# Altium integrated library NSC Power Mgt Switching Regulator.IntLib: 201 symbols (part 4 of 4)
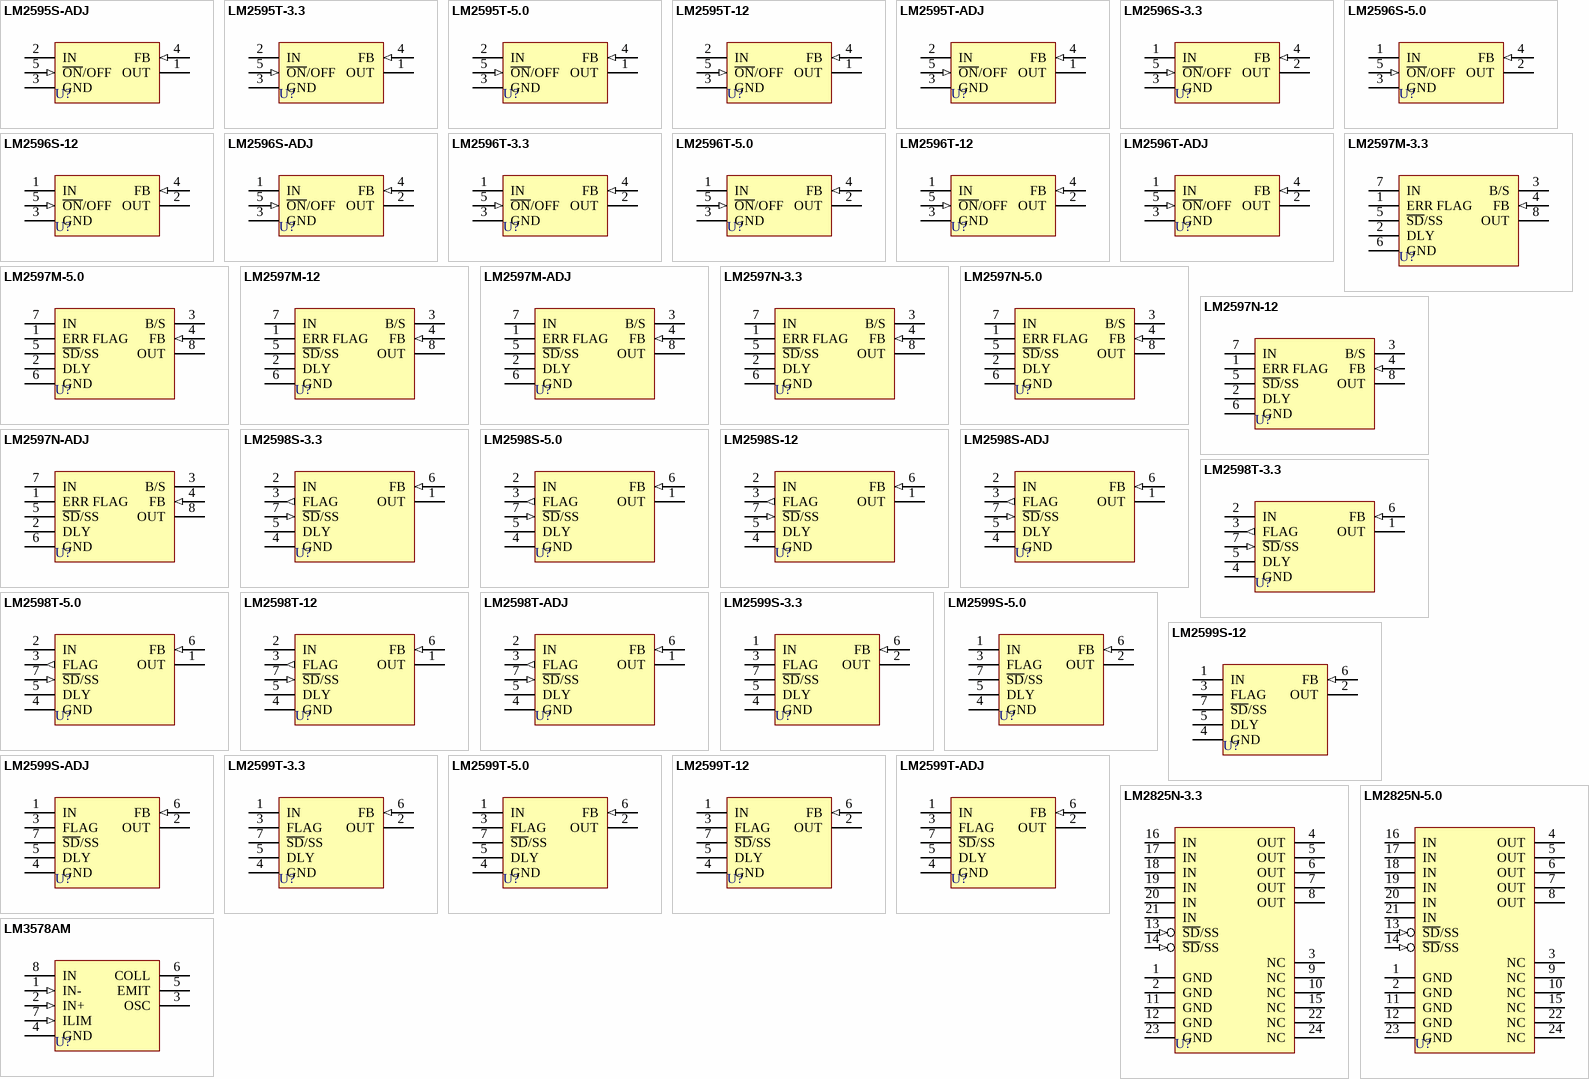
[diagram p8: symbols LM2595S-ADJ to LM3578AM]

## LM2597M-5.0
designator U?
Simple Switcher Power Converter 150 kHz 0.5A Step Down Voltage Regulator, with Features; Published: 15-Apr-2002; LatestRevisionDate: 13-Apr-2006; LatestRevisionNote: IPC-7351 Footprint Added.; DatasheetVersion: Mar-1998; PackageVersion: Sep-1997; PackageReference: M08A; Publisher: Altium Limited; PackageDescription: 8-Pin Small Outline Integrated Circuit 1.27 mm Pitch; Code_JEDEC: MS-012-AA; Code_IPC: SOIC127P600-8; ComponentLink1Description: Manufacturer Link; ComponentLink1URL: http://www.national.com/; ComponentLink2Description: Datasheet; ComponentLink2URL: http://www.national.com/ds.cgi/LM/LM2597.pdf; ComponentLink3Description: URL Link1; ComponentLink3URL: http://www.national.com/pf/LM/LM2597.html
footprint M08A_N (SOIC, 8-Leads, Body 4.9x3.9mm, Pitch 1.27mm, IPC Medium Density)
footprint M08A_L (SOIC, 8-Leads, Body 4.9x3.9mm, Pitch 1.27mm, IPC High Density)
footprint M08A_M (SOIC, 8-Leads, Body 4.9x3.9mm, Pitch 1.27mm, IPC Low Density)
3D model M08A (8-Pin Small Outline Integrated Circuit 1.27 mm Pitch)
pins: 1 ERR FLAG (oc), 2 DLY, 3 B/S, 4 FB (in), 5 ~{SD}/SS, 6 GND (power), 7 IN (power), 8 OUT (power)

## LM2597M-12
designator U?
Simple Switcher Power Converter 150 kHz 0.5A Step Down Voltage Regulator, with Features; Published: 15-Apr-2002; LatestRevisionDate: 13-Apr-2006; LatestRevisionNote: IPC-7351 Footprint Added.; DatasheetVersion: Mar-1998; PackageVersion: Sep-1997; PackageReference: M08A; Publisher: Altium Limited; PackageDescription: 8-Pin Small Outline Integrated Circuit 1.27 mm Pitch; Code_JEDEC: MS-012-AA; Code_IPC: SOIC127P600-8; ComponentLink1Description: Manufacturer Link; ComponentLink1URL: http://www.national.com/; ComponentLink2Description: Datasheet; ComponentLink2URL: http://www.national.com/ds.cgi/LM/LM2597.pdf; ComponentLink3Description: URL Link1; ComponentLink3URL: http://www.national.com/pf/LM/LM2597.html
footprint M08A_N (SOIC, 8-Leads, Body 4.9x3.9mm, Pitch 1.27mm, IPC Medium Density)
footprint M08A_L (SOIC, 8-Leads, Body 4.9x3.9mm, Pitch 1.27mm, IPC High Density)
footprint M08A_M (SOIC, 8-Leads, Body 4.9x3.9mm, Pitch 1.27mm, IPC Low Density)
3D model M08A (8-Pin Small Outline Integrated Circuit 1.27 mm Pitch)
pins: 1 ERR FLAG (oc), 2 DLY, 3 B/S, 4 FB (in), 5 ~{SD}/SS, 6 GND (power), 7 IN (power), 8 OUT (power)

## LM2597M-ADJ
designator U?
Simple Switcher Power Converter 150 kHz 0.5A Step Down Voltage Regulator, with Features; Published: 15-Apr-2002; LatestRevisionDate: 13-Apr-2006; LatestRevisionNote: IPC-7351 Footprint Added.; DatasheetVersion: Mar-1998; PackageVersion: Sep-1997; PackageReference: M08A; Publisher: Altium Limited; PackageDescription: 8-Pin Small Outline Integrated Circuit 1.27 mm Pitch; Code_JEDEC: MS-012-AA; Code_IPC: SOIC127P600-8; ComponentLink1Description: Manufacturer Link; ComponentLink1URL: http://www.national.com/; ComponentLink2Description: Datasheet; ComponentLink2URL: http://www.national.com/ds.cgi/LM/LM2597.pdf; ComponentLink3Description: URL Link1; ComponentLink3URL: http://www.national.com/pf/LM/LM2597.html
footprint M08A_N (SOIC, 8-Leads, Body 4.9x3.9mm, Pitch 1.27mm, IPC Medium Density)
footprint M08A_L (SOIC, 8-Leads, Body 4.9x3.9mm, Pitch 1.27mm, IPC High Density)
footprint M08A_M (SOIC, 8-Leads, Body 4.9x3.9mm, Pitch 1.27mm, IPC Low Density)
3D model M08A (8-Pin Small Outline Integrated Circuit 1.27 mm Pitch)
pins: 1 ERR FLAG (oc), 2 DLY, 3 B/S, 4 FB (in), 5 ~{SD}/SS, 6 GND (power), 7 IN (power), 8 OUT (power)

## LM2597N-3.3
designator U?
Simple Switcher Power Converter 150 kHz 0.5A Step Down Voltage Regulator, with Features; Published: 15-Apr-2002; LatestRevisionDate: 06-Jun-2005; LatestRevisionNote: Stylized 3D Model Added.; DatasheetVersion: Mar-1998; PackageVersion: Sep-1997; PackageReference: N08E; Publisher: Altium Limited; PackageDescription: DIP; 8 Leads; Row Spacing 7.62 mm; Pitch 2.54 mm; ComponentLink1Description: Manufacturer Link; ComponentLink1URL: http://www.national.com/; ComponentLink2Description: Datasheet; ComponentLink2URL: http://www.national.com/ds.cgi/LM/LM2597.pdf; ComponentLink3Description: URL Link1; ComponentLink3URL: http://www.national.com/pf/LM/LM2597.html
footprint N08E (DIP; 8 Leads; Row Spacing 7.62 mm; Pitch 2.54 mm)
3D model N08E (DIP; 8 Leads; Row Spacing 7.62 mm; Pitch 2.54 mm)
pins: 1 ERR FLAG (oc), 2 DLY, 3 B/S, 4 FB (in), 5 ~{SD}/SS, 6 GND (power), 7 IN (power), 8 OUT (power)

## LM2597N-5.0
designator U?
Simple Switcher Power Converter 150 kHz 0.5A Step Down Voltage Regulator, with Features; Published: 15-Apr-2002; LatestRevisionDate: 06-Jun-2005; LatestRevisionNote: Stylized 3D Model Added.; DatasheetVersion: Mar-1998; PackageVersion: Sep-1997; PackageReference: N08E; Publisher: Altium Limited; PackageDescription: DIP; 8 Leads; Row Spacing 7.62 mm; Pitch 2.54 mm; ComponentLink1Description: Manufacturer Link; ComponentLink1URL: http://www.national.com/; ComponentLink2Description: Datasheet; ComponentLink2URL: http://www.national.com/ds.cgi/LM/LM2597.pdf; ComponentLink3Description: URL Link1; ComponentLink3URL: http://www.national.com/pf/LM/LM2597.html
footprint N08E (DIP; 8 Leads; Row Spacing 7.62 mm; Pitch 2.54 mm)
3D model N08E (DIP; 8 Leads; Row Spacing 7.62 mm; Pitch 2.54 mm)
pins: 1 ERR FLAG (oc), 2 DLY, 3 B/S, 4 FB (in), 5 ~{SD}/SS, 6 GND (power), 7 IN (power), 8 OUT (power)

## LM2597N-12
designator U?
Simple Switcher Power Converter 150 kHz 0.5A Step Down Voltage Regulator, with Features; Published: 15-Apr-2002; LatestRevisionDate: 06-Jun-2005; LatestRevisionNote: Stylized 3D Model Added.; DatasheetVersion: Mar-1998; PackageVersion: Sep-1997; PackageReference: N08E; Publisher: Altium Limited; PackageDescription: DIP; 8 Leads; Row Spacing 7.62 mm; Pitch 2.54 mm; ComponentLink1Description: Manufacturer Link; ComponentLink1URL: http://www.national.com/; ComponentLink2Description: Datasheet; ComponentLink2URL: http://www.national.com/ds.cgi/LM/LM2597.pdf; ComponentLink3Description: URL Link1; ComponentLink3URL: http://www.national.com/pf/LM/LM2597.html
footprint N08E (DIP; 8 Leads; Row Spacing 7.62 mm; Pitch 2.54 mm)
3D model N08E (DIP; 8 Leads; Row Spacing 7.62 mm; Pitch 2.54 mm)
pins: 1 ERR FLAG (oc), 2 DLY, 3 B/S, 4 FB (in), 5 ~{SD}/SS, 6 GND (power), 7 IN (power), 8 OUT (power)

## LM2597N-ADJ
designator U?
Simple Switcher Power Converter 150 kHz 0.5A Step Down Voltage Regulator, with Features; Published: 15-Apr-2002; LatestRevisionDate: 06-Jun-2005; LatestRevisionNote: Stylized 3D Model Added.; DatasheetVersion: Mar-1998; PackageVersion: Sep-1997; PackageReference: N08E; Publisher: Altium Limited; PackageDescription: DIP; 8 Leads; Row Spacing 7.62 mm; Pitch 2.54 mm; ComponentLink1Description: Manufacturer Link; ComponentLink1URL: http://www.national.com/; ComponentLink2Description: Datasheet; ComponentLink2URL: http://www.national.com/ds.cgi/LM/LM2597.pdf; ComponentLink3Description: URL Link1; ComponentLink3URL: http://www.national.com/pf/LM/LM2597.html
footprint N08E (DIP; 8 Leads; Row Spacing 7.62 mm; Pitch 2.54 mm)
3D model N08E (DIP; 8 Leads; Row Spacing 7.62 mm; Pitch 2.54 mm)
pins: 1 ERR FLAG (oc), 2 DLY, 3 B/S, 4 FB (in), 5 ~{SD}/SS, 6 GND (power), 7 IN (power), 8 OUT (power)

## LM2598S-3.3
designator U?
Simple Switcher Power Converter 150 kHz 1A Step Down Voltage Regulator with Feature; Note: Tab is connected to GND; Published: 15-Apr-2002; DatasheetVersion: Mar-1998; PackageReference: TS7B; Publisher: Altium Limited; PackageDescription: D2-PAK; 7 Leads; Body 14.4 (inc. leads) x 10.4 mm (LxW max); ComponentLink1Description: Manufacturer Link; ComponentLink1URL: http://www.national.com/; ComponentLink2Description: Datasheet; ComponentLink2URL: http://www.national.com/ds.cgi/LM/LM2598.pdf; ComponentLink3Description: URL Link1; ComponentLink3URL: http://www.national.com/pf/LM/LM2598.html
footprint TS7B (D2-PAK; 7 Leads; Body 14.4 (inc. leads) x 10.4 mm (LxW max))
pins: 1 OUT (power), 2 IN (power), 3 FLAG (out), 4 GND (power), 5 DLY, 6 FB (in), 7 ~{SD}/SS (in)

## LM2598S-5.0
designator U?
Simple Switcher Power Converter 150 kHz 1A Step Down Voltage Regulator with Feature; Note: Tab is connected to GND; Published: 15-Apr-2002; DatasheetVersion: Mar-1998; PackageReference: TS7B; Publisher: Altium Limited; PackageDescription: D2-PAK; 7 Leads; Body 14.4 (inc. leads) x 10.4 mm (LxW max); ComponentLink1Description: Manufacturer Link; ComponentLink1URL: http://www.national.com/; ComponentLink2Description: Datasheet; ComponentLink2URL: http://www.national.com/ds.cgi/LM/LM2598.pdf; ComponentLink3Description: URL Link1; ComponentLink3URL: http://www.national.com/pf/LM/LM2598.html
footprint TS7B (D2-PAK; 7 Leads; Body 14.4 (inc. leads) x 10.4 mm (LxW max))
pins: 1 OUT (power), 2 IN (power), 3 FLAG (out), 4 GND (power), 5 DLY, 6 FB (in), 7 ~{SD}/SS (in)

## LM2598S-12
designator U?
Simple Switcher Power Converter 150 kHz 1A Step Down Voltage Regulator with Feature; Note: Tab is connected to GND; Published: 15-Apr-2002; DatasheetVersion: Mar-1998; PackageReference: TS7B; Publisher: Altium Limited; PackageDescription: D2-PAK; 7 Leads; Body 14.4 (inc. leads) x 10.4 mm (LxW max); ComponentLink1Description: Manufacturer Link; ComponentLink1URL: http://www.national.com/; ComponentLink2Description: Datasheet; ComponentLink2URL: http://www.national.com/ds.cgi/LM/LM2598.pdf; ComponentLink3Description: URL Link1; ComponentLink3URL: http://www.national.com/pf/LM/LM2598.html
footprint TS7B (D2-PAK; 7 Leads; Body 14.4 (inc. leads) x 10.4 mm (LxW max))
pins: 1 OUT (power), 2 IN (power), 3 FLAG (out), 4 GND (power), 5 DLY, 6 FB (in), 7 ~{SD}/SS (in)

## LM2598S-ADJ
designator U?
Simple Switcher Power Converter 150 kHz 1A Step Down Voltage Regulator with Feature; Note: Tab is connected to GND; Published: 15-Apr-2002; DatasheetVersion: Mar-1998; PackageReference: TS7B; Publisher: Altium Limited; PackageDescription: D2-PAK; 7 Leads; Body 14.4 (inc. leads) x 10.4 mm (LxW max); ComponentLink1Description: Manufacturer Link; ComponentLink1URL: http://www.national.com/; ComponentLink2Description: Datasheet; ComponentLink2URL: http://www.national.com/ds.cgi/LM/LM2598.pdf; ComponentLink3Description: URL Link1; ComponentLink3URL: http://www.national.com/pf/LM/LM2598.html
footprint TS7B (D2-PAK; 7 Leads; Body 14.4 (inc. leads) x 10.4 mm (LxW max))
pins: 1 OUT (power), 2 IN (power), 3 FLAG (out), 4 GND (power), 5 DLY, 6 FB (in), 7 ~{SD}/SS (in)

## LM2598T-3.3
designator U?
Simple Switcher Power Converter 150 kHz 1A Step Down Voltage Regulator with Feature; Note: Tab is connected to GND; Published: 15-Apr-2002; DatasheetVersion: Mar-1998; PackageVersion: 1996; PackageReference: TA07B; Publisher: Altium Limited; PackageDescription: TO, Thru-Hole, Vertical, Heatsink Mounted; 7 Bent Staggered Leads; Pitch 1.27 mm; ComponentLink1Description: Manufacturer Link; ComponentLink1URL: http://www.national.com/; ComponentLink2Description: Datasheet; ComponentLink2URL: http://www.national.com/ds.cgi/LM/LM2598.pdf; ComponentLink3Description: URL Link1; ComponentLink3URL: http://www.national.com/pf/LM/LM2598.html
footprint TA07B (TO, Thru-Hole, Vertical, Heatsink Mounted; 7 Bent Staggered Leads; Pitch 1.27 mm)
pins: 1 OUT (power), 2 IN (power), 3 FLAG (out), 4 GND (power), 5 DLY, 6 FB (in), 7 ~{SD}/SS (in)

## LM2598T-5.0
designator U?
Simple Switcher Power Converter 150 kHz 1A Step Down Voltage Regulator with Feature; Note: Tab is connected to GND; Published: 15-Apr-2002; DatasheetVersion: Mar-1998; PackageVersion: 1996; PackageReference: TA07B; Publisher: Altium Limited; PackageDescription: TO, Thru-Hole, Vertical, Heatsink Mounted; 7 Bent Staggered Leads; Pitch 1.27 mm; ComponentLink1Description: Manufacturer Link; ComponentLink1URL: http://www.national.com/; ComponentLink2Description: Datasheet; ComponentLink2URL: http://www.national.com/ds.cgi/LM/LM2598.pdf; ComponentLink3Description: URL Link1; ComponentLink3URL: http://www.national.com/pf/LM/LM2598.html
footprint TA07B (TO, Thru-Hole, Vertical, Heatsink Mounted; 7 Bent Staggered Leads; Pitch 1.27 mm)
pins: 1 OUT (power), 2 IN (power), 3 FLAG (out), 4 GND (power), 5 DLY, 6 FB (in), 7 ~{SD}/SS (in)

## LM2598T-12
designator U?
Simple Switcher Power Converter 150 kHz 1A Step Down Voltage Regulator with Feature; Note: Tab is connected to GND; Published: 15-Apr-2002; DatasheetVersion: Mar-1998; PackageVersion: 1996; PackageReference: TA07B; Publisher: Altium Limited; PackageDescription: TO, Thru-Hole, Vertical, Heatsink Mounted; 7 Bent Staggered Leads; Pitch 1.27 mm; ComponentLink1Description: Manufacturer Link; ComponentLink1URL: http://www.national.com/; ComponentLink2Description: Datasheet; ComponentLink2URL: http://www.national.com/ds.cgi/LM/LM2598.pdf; ComponentLink3Description: URL Link1; ComponentLink3URL: http://www.national.com/pf/LM/LM2598.html
footprint TA07B (TO, Thru-Hole, Vertical, Heatsink Mounted; 7 Bent Staggered Leads; Pitch 1.27 mm)
pins: 1 OUT (power), 2 IN (power), 3 FLAG (out), 4 GND (power), 5 DLY, 6 FB (in), 7 ~{SD}/SS (in)

## LM2598T-ADJ
designator U?
Simple Switcher Power Converter 150 kHz 1A Step Down Voltage Regulator with Feature; Note: Tab is connected to GND; Published: 15-Apr-2002; DatasheetVersion: Mar-1998; PackageVersion: 1996; PackageReference: TA07B; Publisher: Altium Limited; PackageDescription: TO, Thru-Hole, Vertical, Heatsink Mounted; 7 Bent Staggered Leads; Pitch 1.27 mm; ComponentLink1Description: Manufacturer Link; ComponentLink1URL: http://www.national.com/; ComponentLink2Description: Datasheet; ComponentLink2URL: http://www.national.com/ds.cgi/LM/LM2598.pdf; ComponentLink3Description: URL Link1; ComponentLink3URL: http://www.national.com/pf/LM/LM2598.html
footprint TA07B (TO, Thru-Hole, Vertical, Heatsink Mounted; 7 Bent Staggered Leads; Pitch 1.27 mm)
pins: 1 OUT (power), 2 IN (power), 3 FLAG (out), 4 GND (power), 5 DLY, 6 FB (in), 7 ~{SD}/SS (in)

## LM2599S-3.3
designator U?
Simple Switcher Power Converter 150 kHz 3A Step Down Voltage Regulator with Feature; Note: Tab is connected to GND; Published: 15-Apr-2002; DatasheetVersion: Apr-1998; PackageReference: TS7B; Publisher: Altium Limited; PackageDescription: D2-PAK; 7 Leads; Body 14.4 (inc. leads) x 10.4 mm (LxW max); ComponentLink1Description: Manufacturer Link; ComponentLink1URL: http://www.national.com/; ComponentLink2Description: Datasheet; ComponentLink2URL: http://www.national.com/ds.cgi/LM/LM2599.pdf; ComponentLink3Description: URL Link1; ComponentLink3URL: http://www.national.com/pf/LM/LM2599.html
footprint TS7B (D2-PAK; 7 Leads; Body 14.4 (inc. leads) x 10.4 mm (LxW max))
pins: 1 IN (power), 2 OUT (power), 3 FLAG (oc), 4 GND (power), 5 DLY, 6 FB (in), 7 ~{SD}/SS

## LM2599S-5.0
designator U?
Simple Switcher Power Converter 150 kHz 3A Step Down Voltage Regulator with Feature; Note: Tab is connected to GND; Published: 15-Apr-2002; DatasheetVersion: Apr-1998; PackageReference: TS7B; Publisher: Altium Limited; PackageDescription: D2-PAK; 7 Leads; Body 14.4 (inc. leads) x 10.4 mm (LxW max); ComponentLink1Description: Manufacturer Link; ComponentLink1URL: http://www.national.com/; ComponentLink2Description: Datasheet; ComponentLink2URL: http://www.national.com/ds.cgi/LM/LM2599.pdf; ComponentLink3Description: URL Link1; ComponentLink3URL: http://www.national.com/pf/LM/LM2599.html
footprint TS7B (D2-PAK; 7 Leads; Body 14.4 (inc. leads) x 10.4 mm (LxW max))
pins: 1 IN (power), 2 OUT (power), 3 FLAG (oc), 4 GND (power), 5 DLY, 6 FB (in), 7 ~{SD}/SS

## LM2599S-12
designator U?
Simple Switcher Power Converter 150 kHz 3A Step Down Voltage Regulator with Feature; Note: Tab is connected to GND; Published: 15-Apr-2002; DatasheetVersion: Apr-1998; PackageReference: TS7B; Publisher: Altium Limited; PackageDescription: D2-PAK; 7 Leads; Body 14.4 (inc. leads) x 10.4 mm (LxW max); ComponentLink1Description: Manufacturer Link; ComponentLink1URL: http://www.national.com/; ComponentLink2Description: Datasheet; ComponentLink2URL: http://www.national.com/ds.cgi/LM/LM2599.pdf; ComponentLink3Description: URL Link1; ComponentLink3URL: http://www.national.com/pf/LM/LM2599.html
footprint TS7B (D2-PAK; 7 Leads; Body 14.4 (inc. leads) x 10.4 mm (LxW max))
pins: 1 IN (power), 2 OUT (power), 3 FLAG (oc), 4 GND (power), 5 DLY, 6 FB (in), 7 ~{SD}/SS

## LM2599S-ADJ
designator U?
Simple Switcher Power Converter 150 kHz 3A Step Down Voltage Regulator with Feature; Note: Tab is connected to GND; Published: 15-Apr-2002; DatasheetVersion: Apr-1998; PackageReference: TS7B; Publisher: Altium Limited; PackageDescription: D2-PAK; 7 Leads; Body 14.4 (inc. leads) x 10.4 mm (LxW max); ComponentLink1Description: Manufacturer Link; ComponentLink1URL: http://www.national.com/; ComponentLink2Description: Datasheet; ComponentLink2URL: http://www.national.com/ds.cgi/LM/LM2599.pdf; ComponentLink3Description: URL Link1; ComponentLink3URL: http://www.national.com/pf/LM/LM2599.html
footprint TS7B (D2-PAK; 7 Leads; Body 14.4 (inc. leads) x 10.4 mm (LxW max))
pins: 1 IN (power), 2 OUT (power), 3 FLAG (oc), 4 GND (power), 5 DLY, 6 FB (in), 7 ~{SD}/SS

## LM2599T-3.3
designator U?
Simple Switcher Power Converter 150 kHz 3A Step Down Voltage Regulator with Feature; Note: Tab is connected to GND; Published: 15-Apr-2002; DatasheetVersion: Apr-1998; PackageVersion: 1996; PackageReference: TA07B; Publisher: Altium Limited; PackageDescription: TO, Thru-Hole, Vertical, Heatsink Mounted; 7 Bent Staggered Leads; Pitch 1.27 mm; ComponentLink1Description: Manufacturer Link; ComponentLink1URL: http://www.national.com/; ComponentLink2Description: Datasheet; ComponentLink2URL: http://www.national.com/ds.cgi/LM/LM2599.pdf; ComponentLink3Description: URL Link1; ComponentLink3URL: http://www.national.com/pf/LM/LM2599.html
footprint TA07B (TO, Thru-Hole, Vertical, Heatsink Mounted; 7 Bent Staggered Leads; Pitch 1.27 mm)
pins: 1 IN (power), 2 OUT (power), 3 FLAG (oc), 4 GND (power), 5 DLY, 6 FB (in), 7 ~{SD}/SS

## LM2599T-5.0
designator U?
Simple Switcher Power Converter 150 kHz 3A Step Down Voltage Regulator with Feature; Note: Tab is connected to GND; Published: 15-Apr-2002; DatasheetVersion: Apr-1998; PackageVersion: 1996; PackageReference: TA07B; Publisher: Altium Limited; PackageDescription: TO, Thru-Hole, Vertical, Heatsink Mounted; 7 Bent Staggered Leads; Pitch 1.27 mm; ComponentLink1Description: Manufacturer Link; ComponentLink1URL: http://www.national.com/; ComponentLink2Description: Datasheet; ComponentLink2URL: http://www.national.com/ds.cgi/LM/LM2599.pdf; ComponentLink3Description: URL Link1; ComponentLink3URL: http://www.national.com/pf/LM/LM2599.html
footprint TA07B (TO, Thru-Hole, Vertical, Heatsink Mounted; 7 Bent Staggered Leads; Pitch 1.27 mm)
pins: 1 IN (power), 2 OUT (power), 3 FLAG (oc), 4 GND (power), 5 DLY, 6 FB (in), 7 ~{SD}/SS

## LM2599T-12
designator U?
Simple Switcher Power Converter 150 kHz 3A Step Down Voltage Regulator with Feature; Note: Tab is connected to GND; Published: 15-Apr-2002; DatasheetVersion: Apr-1998; PackageVersion: 1996; PackageReference: TA07B; Publisher: Altium Limited; PackageDescription: TO, Thru-Hole, Vertical, Heatsink Mounted; 7 Bent Staggered Leads; Pitch 1.27 mm; ComponentLink1Description: Manufacturer Link; ComponentLink1URL: http://www.national.com/; ComponentLink2Description: Datasheet; ComponentLink2URL: http://www.national.com/ds.cgi/LM/LM2599.pdf; ComponentLink3Description: URL Link1; ComponentLink3URL: http://www.national.com/pf/LM/LM2599.html
footprint TA07B (TO, Thru-Hole, Vertical, Heatsink Mounted; 7 Bent Staggered Leads; Pitch 1.27 mm)
pins: 1 IN (power), 2 OUT (power), 3 FLAG (oc), 4 GND (power), 5 DLY, 6 FB (in), 7 ~{SD}/SS

## LM2599T-ADJ
designator U?
Simple Switcher Power Converter 150 kHz 3A Step Down Voltage Regulator with Feature; Note: Tab is connected to GND; Published: 15-Apr-2002; DatasheetVersion: Apr-1998; PackageVersion: 1996; PackageReference: TA07B; Publisher: Altium Limited; PackageDescription: TO, Thru-Hole, Vertical, Heatsink Mounted; 7 Bent Staggered Leads; Pitch 1.27 mm; ComponentLink1Description: Manufacturer Link; ComponentLink1URL: http://www.national.com/; ComponentLink2Description: Datasheet; ComponentLink2URL: http://www.national.com/ds.cgi/LM/LM2599.pdf; ComponentLink3Description: URL Link1; ComponentLink3URL: http://www.national.com/pf/LM/LM2599.html
footprint TA07B (TO, Thru-Hole, Vertical, Heatsink Mounted; 7 Bent Staggered Leads; Pitch 1.27 mm)
pins: 1 IN (power), 2 OUT (power), 3 FLAG (oc), 4 GND (power), 5 DLY, 6 FB (in), 7 ~{SD}/SS

## LM2825N-3.3
designator U?
Integrated Power Supply 1A DC-DC Converter; Note: No connect pins may be connected to thermal pads for thermal reasons but must remain electrically isolated.; Published: 15-Apr-2002; LatestRevisionDate: 06-Jun-2005; LatestRevisionNote: Stylized 3D Model Added.; DatasheetVersion: May-1997; PackageVersion: 2000; PackageReference: NA24F; Publisher: Altium Limited; PackageDescription: DIP; 24 Leads; Row Spacing 15.24 mm; Pitch 2.54 mm; ComponentLink1Description: Manufacturer Link; ComponentLink1URL: http://www.national.com/; ComponentLink2Description: Datasheet; ComponentLink2URL: http://www.national.com/ds.cgi/LM/LM2825.pdf; ComponentLink3Description: URL Link1; ComponentLink3URL: http://www.national.com/pf/LM/LM2825.html
footprint NA24F (DIP; 24 Leads; Row Spacing 15.24 mm; Pitch 2.54 mm)
3D model NA24F (DIP; 24 Leads; Row Spacing 15.24 mm; Pitch 2.54 mm)
pins: 1 GND (power), 2 GND (power), 3 NC, 4 OUT (power), 5 OUT (power), 6 OUT (power), 7 OUT (power), 8 OUT (power), 9 NC, 10 NC, 11 GND (power), 12 GND (power), 13 ~{SD}/SS (in), 14 ~{SD}/SS (in), 15 NC, 16 IN (power), 17 IN (power), 18 IN (power), 19 IN (power), 20 IN (power), 21 IN (power), 22 NC, 23 GND (power), 24 NC

## LM2825N-5.0
designator U?
Integrated Power Supply 1A DC-DC Converter; Note: No connect pins may be connected to thermal pads for thermal reasons but must remain electrically isolated.; Published: 15-Apr-2002; LatestRevisionDate: 06-Jun-2005; LatestRevisionNote: Stylized 3D Model Added.; DatasheetVersion: May-1997; PackageVersion: 2000; PackageReference: NA24F; Publisher: Altium Limited; PackageDescription: DIP; 24 Leads; Row Spacing 15.24 mm; Pitch 2.54 mm; ComponentLink1Description: Manufacturer Link; ComponentLink1URL: http://www.national.com/; ComponentLink2Description: Datasheet; ComponentLink2URL: http://www.national.com/ds.cgi/LM/LM2825.pdf; ComponentLink3Description: URL Link1; ComponentLink3URL: http://www.national.com/pf/LM/LM2825.html
footprint NA24F (DIP; 24 Leads; Row Spacing 15.24 mm; Pitch 2.54 mm)
3D model NA24F (DIP; 24 Leads; Row Spacing 15.24 mm; Pitch 2.54 mm)
pins: 1 GND (power), 2 GND (power), 3 NC, 4 OUT (power), 5 OUT (power), 6 OUT (power), 7 OUT (power), 8 OUT (power), 9 NC, 10 NC, 11 GND (power), 12 GND (power), 13 ~{SD}/SS (in), 14 ~{SD}/SS (in), 15 NC, 16 IN (power), 17 IN (power), 18 IN (power), 19 IN (power), 20 IN (power), 21 IN (power), 22 NC, 23 GND (power), 24 NC

## LM3578AM
designator U?
Switching Regulator; Published: 15-Apr-2002; LatestRevisionDate: 13-Apr-2006; LatestRevisionNote: IPC-7351 Footprint Added.; DatasheetVersion: Apr-1998; PackageVersion: Sep-1997; PackageReference: M08A; Publisher: Altium Limited; PackageDescription: 8-Pin Small Outline Integrated Circuit 1.27 mm Pitch; Code_JEDEC: MS-012-AA; Code_IPC: SOIC127P600-8; ComponentLink1Description: Manufacturer Link; ComponentLink1URL: http://www.national.com/
footprint M08A_N (SOIC, 8-Leads, Body 4.9x3.9mm, Pitch 1.27mm, IPC Medium Density)
footprint M08A_L (SOIC, 8-Leads, Body 4.9x3.9mm, Pitch 1.27mm, IPC High Density)
footprint M08A_M (SOIC, 8-Leads, Body 4.9x3.9mm, Pitch 1.27mm, IPC Low Density)
3D model M08A (8-Pin Small Outline Integrated Circuit 1.27 mm Pitch)
pins: 1 IN- (in), 2 IN+ (in), 3 OSC, 4 GND (power), 5 EMIT (power), 6 COLL (power), 7 ILIM (in), 8 IN (power)

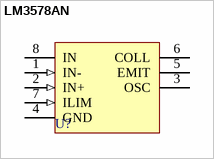
[diagram p5: symbol LM3578AN]

## LM3578AN
designator U?
Switching Regulator; Published: 15-Apr-2002; LatestRevisionDate: 06-Jun-2005; LatestRevisionNote: Stylized 3D Model Added.; DatasheetVersion: Apr-1998; PackageVersion: Sep-1997; PackageReference: N08E; Publisher: Altium Limited; PackageDescription: DIP; 8 Leads; Row Spacing 7.62 mm; Pitch 2.54 mm; ComponentLink1Description: Manufacturer Link; ComponentLink1URL: http://www.national.com/
footprint N08E (DIP; 8 Leads; Row Spacing 7.62 mm; Pitch 2.54 mm)
3D model N08E (DIP; 8 Leads; Row Spacing 7.62 mm; Pitch 2.54 mm)
pins: 1 IN- (in), 2 IN+ (in), 3 OSC, 4 GND (power), 5 EMIT (power), 6 COLL (power), 7 ILIM (in), 8 IN (power)